# Altium schematic symbol library MX.SchLib: 16 symbols
Pins are listed as number, name and electrical type; pins without a type are passive.

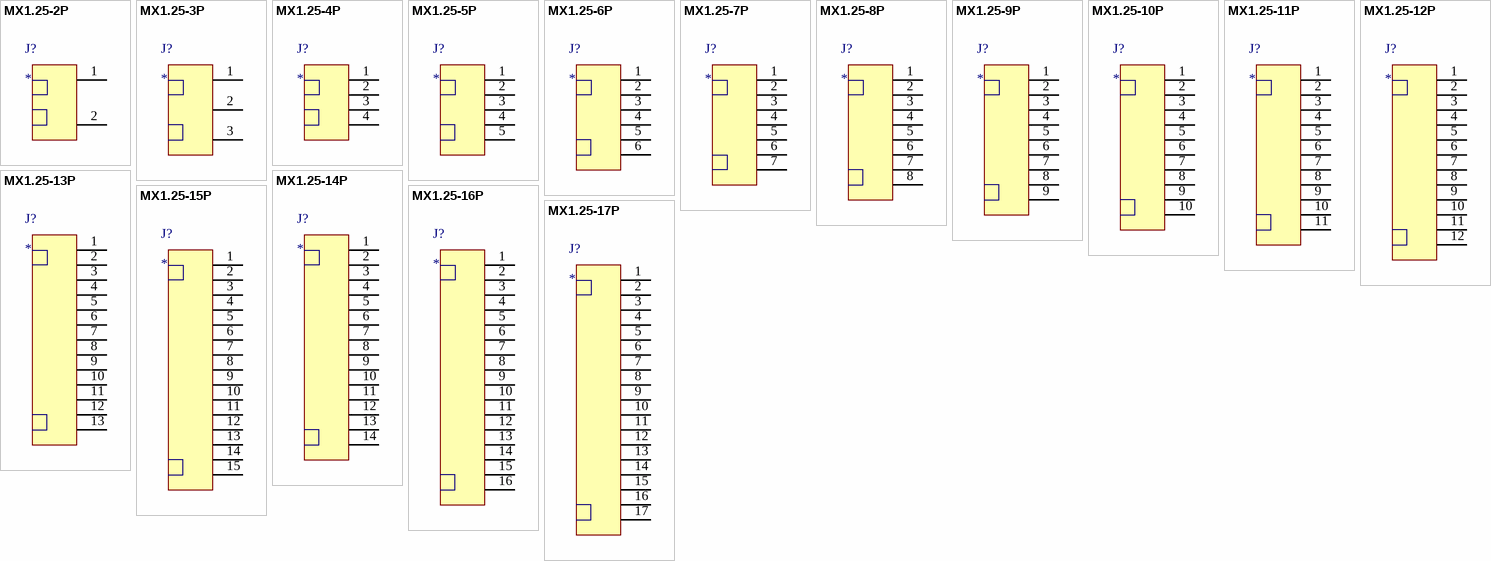
[diagram p0: symbols MX1.25-2P to MX1.25-17P]

## MX1.25-2P
designator J?
MX1.25连接器母座
pins: 1, 2

## MX1.25-3P
designator J?
MX1.25连接器母座
pins: 1, 2, 3

## MX1.25-4P
designator J?
MX1.25连接器母座
pins: 1, 2, 3, 4

## MX1.25-5P
designator J?
MX1.25连接器母座
pins: 1, 2, 3, 4, 5

## MX1.25-6P
designator J?
MX1.25连接器母座
pins: 1, 2, 3, 4, 5, 6

## MX1.25-7P
designator J?
MX1.25连接器母座
pins: 1, 2, 3, 4, 5, 6, 7

## MX1.25-8P
designator J?
MX1.25连接器母座
pins: 1, 2, 3, 4, 5, 6, 7, 8

## MX1.25-9P
designator J?
MX1.25连接器母座
pins: 1, 2, 3, 4, 5, 6, 7, 8, 9

## MX1.25-10P
designator J?
MX1.25连接器母座
pins: 1, 2, 3, 4, 5, 6, 7, 8, 9, 10

## MX1.25-11P
designator J?
MX1.25连接器母座
pins: 1, 2, 3, 4, 5, 6, 7, 8, 9, 10, 11

## MX1.25-12P
designator J?
MX1.25连接器母座
pins: 1, 2, 3, 4, 5, 6, 7, 8, 9, 10, 11, 12

## MX1.25-13P
designator J?
MX1.25连接器母座
pins: 1, 2, 3, 4, 5, 6, 7, 8, 9, 10, 11, 12, 13

## MX1.25-14P
designator J?
MX1.25连接器母座
pins: 1, 2, 3, 4, 5, 6, 7, 8, 9, 10, 11, 12, 13, 14

## MX1.25-15P
designator J?
MX1.25连接器母座
pins: 1, 2, 3, 4, 5, 6, 7, 8, 9, 10, 11, 12, 13, 14, 15

## MX1.25-16P
designator J?
MX1.25连接器母座
pins: 1, 2, 3, 4, 5, 6, 7, 8, 9, 10, 11, 12, 13, 14, 15, 16

## MX1.25-17P
designator J?
MX1.25连接器母座
pins: 1, 2, 3, 4, 5, 6, 7, 8, 9, 10, 11, 12, 13, 14, 15, 16, 17